# Altium schematic symbol library WR-MJ.SchLib: 82 symbols (part 1 of 2)
Pins are listed as number, name and electrical type; pins without a type are passive.

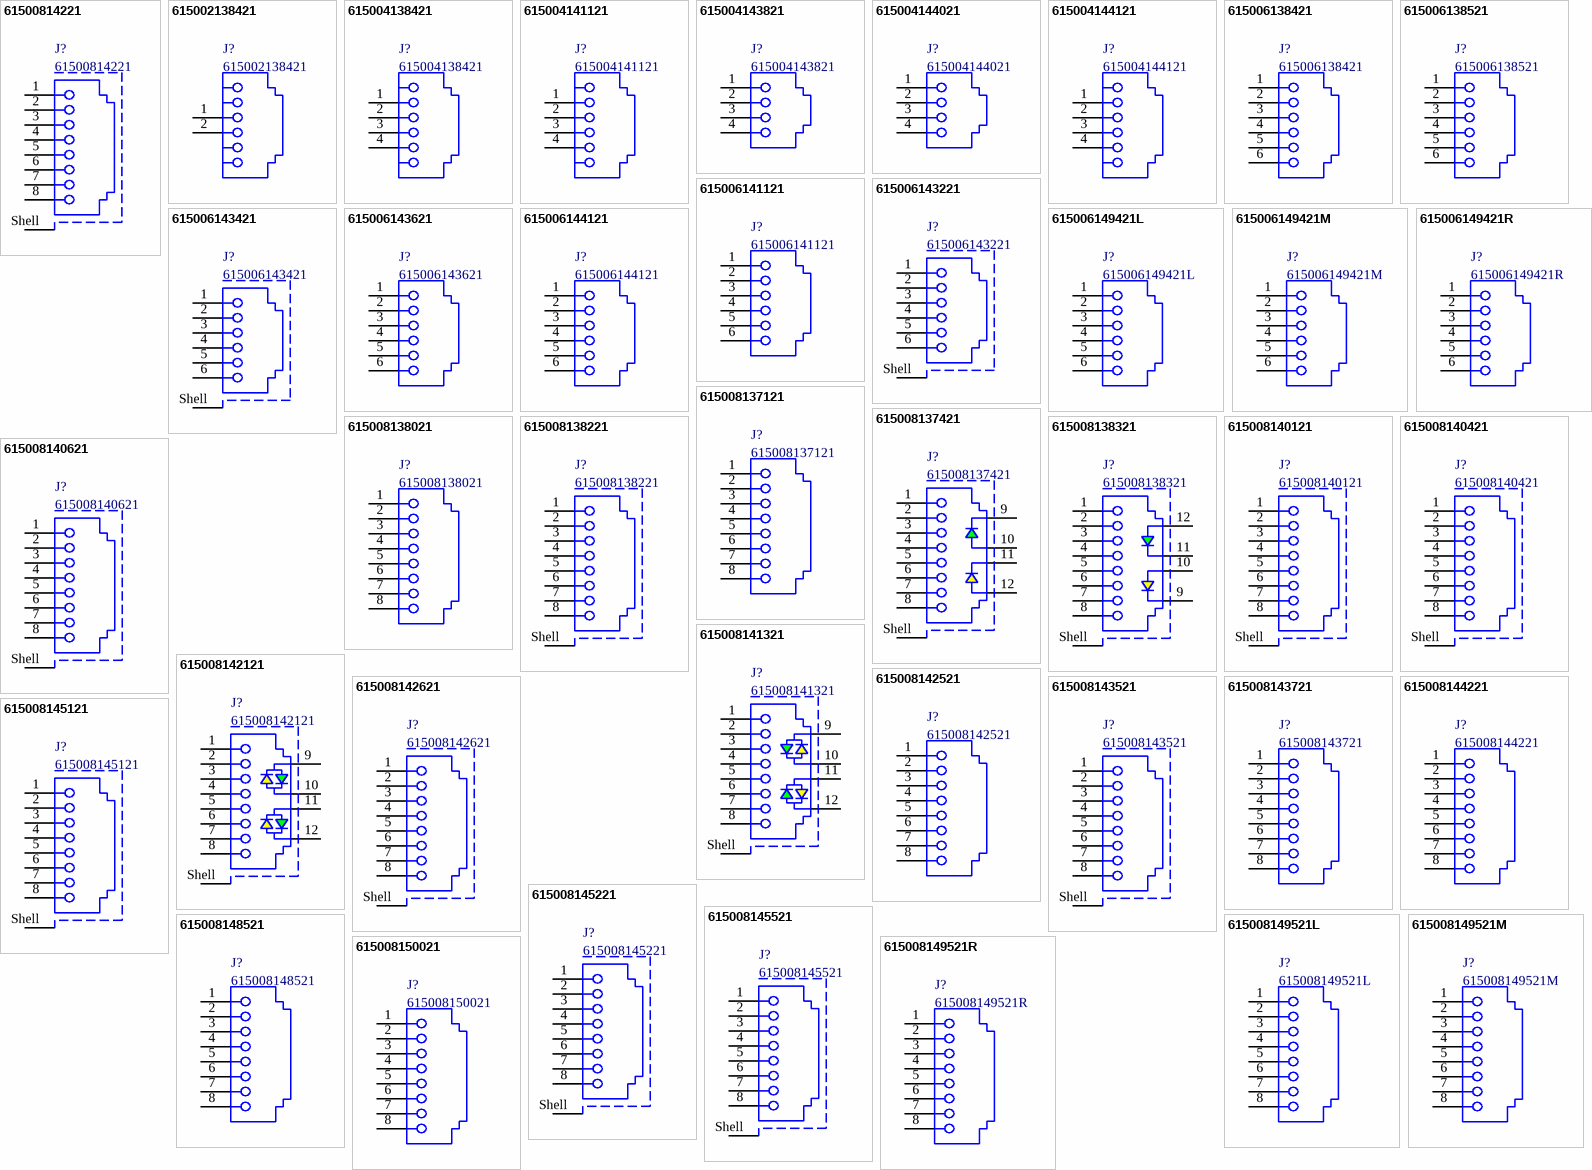
[diagram p0: symbols 61500814221 to 615008150021]

## 61500814221
designator J?
WR-MJ Modular Jack THT Horizontal Shielded 8P8C Tab Down; Manufacturer: Wurth Elektronik; Insulation Resistance: 500MΩ; Contact Resistance: 20mΩ; LED: No; Number of Ports: 1; Rated Current: 1.5A; Shielding: Yes; Working Voltage: 120V (AC); Withstanding Voltage: 1000V (AC); Manufacturer Part Number: 61500814221; Category: Input/Output Connector; Match Code: WR-MJ; ComponentLink1Description: Website Link; ComponentLink1URL: https://www.we-online.com/redexpert/article/61500814221?ad; ComponentLink2Description: Datasheet Link; ComponentLink2URL: https://www.we-online.com/redexpert/spec/61500814221?ad; Mount: Through Hole; Min Operating Temperature: -40°C; Max Operating Temperature: 85°C; Packaging: Tray; Number of Pins: 8P8C; Orientation: Horizontal
footprint 61500814221
pins: 1, 2, 3, 4, 5, 6, 7, 8, Shell

## 615002138421
designator J?
WR-MJ Modular Jack THT Horizontal Plastic 6P2C Tab Up; Manufacturer: Wurth Elektronik; Insulation Resistance: 500MΩ; Contact Resistance: 20mΩ; LED: No; Number of Ports: 1; Rated Current: 1.5A; Working Voltage: 120V (AC); Withstanding Voltage: 1000V (AC); Manufacturer Part Number: 615002138421; Category: Input/Output Connector; Match Code: WR-MJ; ComponentLink1Description: Website Link; ComponentLink1URL: https://www.we-online.com/redexpert/article/615002138421?ad; ComponentLink2Description: Datasheet Link; ComponentLink2URL: https://www.we-online.com/redexpert/spec/615002138421?ad; Mount: Through Hole; Min Operating Temperature: -40°C; Max Operating Temperature: 85°C; Packaging: Tray; Number of Pins: 6P2C; Orientation: Horizontal; Shielding: No
footprint 615002138421
pins: 1, 2

## 615004138421
designator J?
WR-MJ Modular Jack THT Horizontal Plastic 6P4C Tab Up; Manufacturer: Wurth Elektronik; Insulation Resistance: 500MΩ; Contact Resistance: 20mΩ; LED: No; Number of Ports: 1; Rated Current: 1.5A; Working Voltage: 120V (AC); Withstanding Voltage: 1000V (AC); Manufacturer Part Number: 615004138421; Category: Input/Output Connector; Match Code: WR-MJ; ComponentLink1Description: Website Link; ComponentLink1URL: https://www.we-online.com/redexpert/article/615004138421?ad; ComponentLink2Description: Datasheet Link; ComponentLink2URL: https://www.we-online.com/redexpert/spec/615004138421?ad; Mount: Through Hole; Min Operating Temperature: -40°C; Max Operating Temperature: 85°C; Packaging: Tray; Number of Pins: 6P4C; Orientation: Horizontal; Shielding: No
footprint 615004138421
pins: 1, 2, 3, 4

## 615004141121
designator J?
WR-MJ Modular Jack THT Horizontal Plastic 6P4C Tab Down; Manufacturer: Wurth Elektronik; Insulation Resistance: 500MΩ; Contact Resistance: 20mΩ; LED: No; Number of Ports: 1; Rated Current: 1.5A; Working Voltage: 120V (AC); Withstanding Voltage: 1000V (AC); Manufacturer Part Number: 615004141121; Category: Input/Output Connector; Match Code: WR-MJ; ComponentLink1Description: Website Link; ComponentLink1URL: https://www.we-online.com/redexpert/article/615004141121?ad; ComponentLink2Description: Datasheet Link; ComponentLink2URL: https://www.we-online.com/redexpert/spec/615004141121?ad; Mount: Through Hole; Min Operating Temperature: -40°C; Max Operating Temperature: 85°C; Packaging: Tray; Number of Pins: 6P4C; Orientation: Horizontal; Shielding: No
footprint 615004141121
pins: 1, 2, 3, 4

## 615004143821
designator J?
WR-MJ Modular Jack THT Horizontal Plastic 4P4C Tab Up; Manufacturer: Wurth Elektronik; Insulation Resistance: 500MΩ; Contact Resistance: 20mΩ; LED: No; Number of Ports: 1; Rated Current: 1.5A; Working Voltage: 120V (AC); Withstanding Voltage: 1000V (AC); Manufacturer Part Number: 615004143821; Category: Input/Output Connector; Match Code: WR-MJ; ComponentLink1Description: Website Link; ComponentLink1URL: https://www.we-online.com/redexpert/article/615004143821?ad; ComponentLink2Description: Datasheet Link; ComponentLink2URL: https://www.we-online.com/redexpert/spec/615004143821?ad; Mount: Through Hole; Min Operating Temperature: -40°C; Max Operating Temperature: 85°C; Packaging: Tray; Number of Pins: 4P4C; Orientation: Horizontal; Shielding: No
footprint 615004143821
pins: 1, 2, 3, 4

## 615004144021
designator J?
WR-MJ Modular Jack THT Vertical Plastic 4P4C with Ears; Manufacturer: Wurth Elektronik; Insulation Resistance: 500MΩ; Contact Resistance: 20mΩ; LED: No; Number of Ports: 1; Rated Current: 1.5A; Working Voltage: 120V (AC); Withstanding Voltage: 1000V (AC); Manufacturer Part Number: 615004144021; Category: Input/Output Connector; Match Code: WR-MJ; ComponentLink1Description: Website Link; ComponentLink1URL: https://www.we-online.com/redexpert/article/615004144021?ad; ComponentLink2Description: Datasheet Link; ComponentLink2URL: https://www.we-online.com/redexpert/spec/615004144021?ad; Mount: Through Hole; Min Operating Temperature: -40°C; Max Operating Temperature: 85°C; Packaging: Tray; Number of Pins: 4P4C; Orientation: Vertical; Shielding: No
footprint 615004144021
pins: 1, 2, 3, 4

## 615004144121
designator J?
WR-MJ Modular Jack THT Vertical Plastic 6P4C with Ears; Manufacturer: Wurth Elektronik; Insulation Resistance: 500MΩ; Contact Resistance: 20mΩ; LED: No; Number of Ports: 1; Rated Current: 1.5A; Working Voltage: 120V (AC); Withstanding Voltage: 1000V (AC); Manufacturer Part Number: 615004144121; Category: Input/Output Connector; Match Code: WR-MJ; ComponentLink1Description: Website Link; ComponentLink1URL: https://www.we-online.com/redexpert/article/615004144121?ad; ComponentLink2Description: Datasheet Link; ComponentLink2URL: https://www.we-online.com/redexpert/spec/615004144121?ad; Mount: Through Hole; Min Operating Temperature: -40°C; Max Operating Temperature: 85°C; Packaging: Tray; Number of Pins: 6P4C; Orientation: Vertical; Shielding: No
footprint 615004144121
pins: 1, 2, 3, 4

## 615006138421
designator J?
WR-MJ Modular Jack THT Horizontal Plastic 6P6C Tab Up; Manufacturer: Wurth Elektronik; Insulation Resistance: 500MΩ; Contact Resistance: 20mΩ; LED: No; Number of Ports: 1; Rated Current: 1.5A; Working Voltage: 120V (AC); Withstanding Voltage: 1000V (AC); Manufacturer Part Number: 615006138421; Category: Input/Output Connector; Match Code: WR-MJ; ComponentLink1Description: Website Link; ComponentLink1URL: https://www.we-online.com/redexpert/article/615006138421?ad; ComponentLink2Description: Datasheet Link; ComponentLink2URL: https://www.we-online.com/redexpert/spec/615006138421?ad; Mount: Through Hole; Min Operating Temperature: -40°C; Max Operating Temperature: 85°C; Packaging: Tray; Number of Pins: 6P6C; Orientation: Horizontal; Shielding: No
footprint 615006138421
pins: 1, 2, 3, 4, 5, 6

## 615006138521
designator J?
WR-MJ Modular Jack THT Vertical Plastic 6P6C with Ears; Manufacturer: Wurth Elektronik; Insulation Resistance: 500MΩ; Contact Resistance: 20mΩ; LED: No; Number of Ports: 1; Rated Current: 1.5A; Working Voltage: 120V (AC); Withstanding Voltage: 1000V (AC); Manufacturer Part Number: 615006138521; Category: Input/Output Connector; Match Code: WR-MJ; ComponentLink1Description: Website Link; ComponentLink1URL: https://www.we-online.com/redexpert/article/615006138521?ad; ComponentLink2Description: Datasheet Link; ComponentLink2URL: https://www.we-online.com/redexpert/spec/615006138521?ad; Mount: Through Hole; Min Operating Temperature: -40°C; Max Operating Temperature: 85°C; Packaging: Tray; Number of Pins: 6P6C; Orientation: Vertical; Shielding: No
footprint 615006138521
pins: 1, 2, 3, 4, 5, 6

## 615006141121
designator J?
WR-MJ Modular Jack THT Horizontal Plastic 6P6C Tab Down; Manufacturer: Wurth Elektronik; Insulation Resistance: 500MΩ; Contact Resistance: 20mΩ; LED: No; Number of Ports: 1; Rated Current: 1.5A; Working Voltage: 120V (AC); Withstanding Voltage: 1000V (AC); Manufacturer Part Number: 615006141121; Category: Input/Output Connector; Match Code: WR-MJ; ComponentLink1Description: Website Link; ComponentLink1URL: https://www.we-online.com/redexpert/article/615006141121?ad; ComponentLink2Description: Datasheet Link; ComponentLink2URL: https://www.we-online.com/redexpert/spec/615006141121?ad; Mount: Through Hole; Min Operating Temperature: -40°C; Max Operating Temperature: 85°C; Packaging: Tray; Number of Pins: 6P6C; Orientation: Horizontal; Shielding: No
footprint 615006141121
pins: 1, 2, 3, 4, 5, 6

## 615006143221
designator J?
WR-MJ Modular Jack THT Horizontal Shielded 6P6C Tab Up; Manufacturer: Wurth Elektronik; Insulation Resistance: 500MΩ; Contact Resistance: 20mΩ; LED: No; Number of Ports: 1; Rated Current: 1.5A; Shielding: Yes; Working Voltage: 120V (AC); Withstanding Voltage: 1000V (AC); Manufacturer Part Number: 615006143221; Category: Input/Output Connector; Match Code: WR-MJ; ComponentLink1Description: Website Link; ComponentLink1URL: https://www.we-online.com/redexpert/article/615006143221?ad; ComponentLink2Description: Datasheet Link; ComponentLink2URL: https://www.we-online.com/redexpert/spec/615006143221?ad; Mount: Through Hole; Min Operating Temperature: -40°C; Max Operating Temperature: 85°C; Packaging: Tray; Number of Pins: 6P6C; Orientation: Horizontal
footprint 615006143221
pins: 1, 2, 3, 4, 5, 6, Shell

## 615006143421
designator J?
WR-MJ Modular Jack THT Horizontal Half Shielded 6P6C Tab Down; Manufacturer: Wurth Elektronik; Insulation Resistance: 500MΩ; Contact Resistance: 20mΩ; LED: No; Number of Ports: 1; Rated Current: 1.5A; Shielding: Yes; Working Voltage: 120V (AC); Withstanding Voltage: 1000V (AC); Manufacturer Part Number: 615006143421; Category: Input/Output Connector; Match Code: WR-MJ; ComponentLink1Description: Website Link; ComponentLink1URL: https://www.we-online.com/redexpert/article/615006143421?ad; ComponentLink2Description: Datasheet Link; ComponentLink2URL: https://www.we-online.com/redexpert/spec/615006143421?ad; Mount: Through Hole; Min Operating Temperature: -40°C; Max Operating Temperature: 85°C; Packaging: Tray; Number of Pins: 6P6C; Orientation: Horizontal
footprint 615006143421
pins: 1, 2, 3, 4, 5, 6, Shell

## 615006143621
designator J?
WR-MJ Modular Jack THT Horizontal Plastic 6P6C Tab Down; Manufacturer: Wurth Elektronik; Insulation Resistance: 500MΩ; Contact Resistance: 20mΩ; LED: No; Number of Ports: 1; Rated Current: 1.5A; Working Voltage: 120V (AC); Withstanding Voltage: 1000V (AC); Manufacturer Part Number: 615006143621; Category: Input/Output Connector; Match Code: WR-MJ; ComponentLink1Description: Website Link; ComponentLink1URL: https://www.we-online.com/redexpert/article/615006143621?ad; ComponentLink2Description: Datasheet Link; ComponentLink2URL: https://www.we-online.com/redexpert/spec/615006143621?ad; Mount: Through Hole; Min Operating Temperature: -40°C; Max Operating Temperature: 85°C; Packaging: Tray; Number of Pins: 6P6C; Orientation: Horizontal; Shielding: No
footprint 615006143621
pins: 1, 2, 3, 4, 5, 6

## 615006144121
designator J?
WR-MJ Modular Jack THT Vertical Plastic 6P6C with Ears; Manufacturer: Wurth Elektronik; Insulation Resistance: 500MΩ; Contact Resistance: 20mΩ; LED: No; Number of Ports: 1; Rated Current: 1.5A; Working Voltage: 120V (AC); Withstanding Voltage: 1000V (AC); Manufacturer Part Number: 615006144121; Category: Input/Output Connector; Match Code: WR-MJ; ComponentLink1Description: Website Link; ComponentLink1URL: https://www.we-online.com/redexpert/article/615006144121?ad; ComponentLink2Description: Datasheet Link; ComponentLink2URL: https://www.we-online.com/redexpert/spec/615006144121?ad; Mount: Through Hole; Min Operating Temperature: -40°C; Max Operating Temperature: 85°C; Packaging: Tray; Number of Pins: 6P6C; Orientation: Vertical; Shielding: No
footprint 615006144121
pins: 1, 2, 3, 4, 5, 6

## 615006149421L
designator J?
WR-MJ Modular Jack THT Horizontal Plastic 6P6C Assembly Tab Up; Manufacturer: Wurth Elektronik; Insulation Resistance: 500MΩ; Contact Resistance: 20mΩ; LED: No; Number of Ports: 1; Rated Current: 1.5A; Working Voltage: 120V (AC); Withstanding Voltage: 1000V (AC); Manufacturer Part Number: 615006149421L; Category: Input/Output Connector; Match Code: WR-MJ; ComponentLink1Description: Website Link; ComponentLink1URL: https://www.we-online.com/redexpert/article/615006149421L?ad; ComponentLink2Description: Datasheet Link; ComponentLink2URL: https://www.we-online.com/redexpert/spec/615006149421L?ad; Mount: Through Hole; Min Operating Temperature: -40°C; Max Operating Temperature: 85°C; Packaging: Tray; Number of Pins: 6P6C; Orientation: Horizontal; Shielding: No
footprint 615006149421L
pins: 1, 2, 3, 4, 5, 6

## 615006149421M
designator J?
WR-MJ Modular Jack THT Horizontal Plastic 6P6C Assembly Tab Up; Manufacturer: Wurth Elektronik; Insulation Resistance: 500MΩ; Contact Resistance: 20mΩ; LED: No; Number of Ports: 1; Rated Current: 1.5A; Working Voltage: 120V (AC); Withstanding Voltage: 1000V (AC); Manufacturer Part Number: 615006149421M; Category: Input/Output Connector; Match Code: WR-MJ; ComponentLink1Description: Website Link; ComponentLink1URL: https://www.we-online.com/redexpert/article/615006149421M?ad; ComponentLink2Description: Datasheet Link; ComponentLink2URL: https://www.we-online.com/redexpert/spec/615006149421M?ad; Mount: Through Hole; Min Operating Temperature: -40°C; Max Operating Temperature: 85°C; Packaging: Tray; Number of Pins: 6P6C; Orientation: Horizontal; Shielding: No
footprint 615006149421M
pins: 1, 2, 3, 4, 5, 6

## 615006149421R
designator J?
WR-MJ Modular Jack THT Horizontal Plastic 6P6C Assembly Tab Up; Manufacturer: Wurth Elektronik; Insulation Resistance: 500MΩ; Contact Resistance: 20mΩ; LED: No; Number of Ports: 1; Rated Current: 1.5A; Working Voltage: 120V (AC); Withstanding Voltage: 1000V (AC); Manufacturer Part Number: 615006149421R; Category: Input/Output Connector; Match Code: WR-MJ; ComponentLink1Description: Website Link; ComponentLink1URL: https://www.we-online.com/redexpert/article/615006149421R?ad; ComponentLink2Description: Datasheet Link; ComponentLink2URL: https://www.we-online.com/redexpert/spec/615006149421R?ad; Mount: Through Hole; Min Operating Temperature: -40°C; Max Operating Temperature: 85°C; Packaging: Tray; Number of Pins: 6P6C; Orientation: Horizontal; Shielding: No
footprint 615006149421R
pins: 1, 2, 3, 4, 5, 6

## 615008137121
designator J?
WR-MJ Modular Jack THT Horizontal Plastic 8P8C Tab Down; Manufacturer: Wurth Elektronik; Insulation Resistance: 500MΩ; Contact Resistance: 20mΩ; LED: No; Number of Ports: 1; Rated Current: 1.5A; Working Voltage: 120V (AC); Withstanding Voltage: 1000V (AC); Manufacturer Part Number: 615008137121; Category: Input/Output Connector; Match Code: WR-MJ; ComponentLink1Description: Website Link; ComponentLink1URL: https://www.we-online.com/redexpert/article/615008137121?ad; ComponentLink2Description: Datasheet Link; ComponentLink2URL: https://www.we-online.com/redexpert/spec/615008137121?ad; Mount: Through Hole; Min Operating Temperature: -40°C; Max Operating Temperature: 85°C; Packaging: Tray; Number of Pins: 8P8C; Orientation: Horizontal; Shielding: No
footprint 615008137121
pins: 1, 2, 3, 4, 5, 6, 7, 8

## 615008137421
designator J?
WR-MJ Modular Jack THT Horizontal Shielded 8P8C Tab Up; Manufacturer: Wurth Elektronik; Insulation Resistance: 500MΩ; Contact Resistance: 20mΩ; LED: Y/G; Number of Ports: 1; Rated Current: 1.5A; Shielding: Yes; Working Voltage: 120V (AC); Withstanding Voltage: 1000V (AC); Manufacturer Part Number: 615008137421; Category: Input/Output Connector; Match Code: WR-MJ; ComponentLink1Description: Website Link; ComponentLink1URL: https://www.we-online.com/redexpert/article/615008137421?ad; ComponentLink2Description: Datasheet Link; ComponentLink2URL: https://www.we-online.com/redexpert/spec/615008137421?ad; Mount: Through Hole; Min Operating Temperature: -40°C; Max Operating Temperature: 85°C; Packaging: Tray; Number of Pins: 8P8C; Orientation: Horizontal
footprint 615008137421
pins: 1, 2, 3, 4, 5, 6, 7, 8, 9, 10, 11, 12, Shell

## 615008138021
designator J?
WR-MJ Modular Jack THT Vertical Plastic 8P8C; Manufacturer: Wurth Elektronik; Insulation Resistance: 500MΩ; Contact Resistance: 20mΩ; LED: No; Number of Ports: 1; Rated Current: 1.5A; Working Voltage: 120V (AC); Withstanding Voltage: 1000V (AC); Manufacturer Part Number: 615008138021; Category: Input/Output Connector; Match Code: WR-MJ; ComponentLink1Description: Website Link; ComponentLink1URL: https://www.we-online.com/redexpert/article/615008138021?ad; ComponentLink2Description: Datasheet Link; ComponentLink2URL: https://www.we-online.com/redexpert/spec/615008138021?ad; Mount: Through Hole; Min Operating Temperature: -40°C; Max Operating Temperature: 85°C; Packaging: Tray; Number of Pins: 8P8C; Orientation: Vertical; Shielding: No
footprint 615008138021
pins: 1, 2, 3, 4, 5, 6, 7, 8

## 615008138221
designator J?
WR-MJ Modular Jack THT Vertical Shielded 8P8C Front Post; Manufacturer: Wurth Elektronik; Insulation Resistance: 500MΩ; Contact Resistance: 20mΩ; LED: No; Number of Ports: 1; Rated Current: 1.5A; Shielding: Yes; Working Voltage: 120V (AC); Withstanding Voltage: 1000V (AC); Manufacturer Part Number: 615008138221; Category: Input/Output Connector; Match Code: WR-MJ; ComponentLink1Description: Website Link; ComponentLink1URL: https://www.we-online.com/redexpert/article/615008138221?ad; ComponentLink2Description: Datasheet Link; ComponentLink2URL: https://www.we-online.com/redexpert/spec/615008138221?ad; Mount: Through Hole; Min Operating Temperature: -40°C; Max Operating Temperature: 85°C; Packaging: Tray; Number of Pins: 8P8C; Orientation: Vertical
footprint 615008138221
pins: 1, 2, 3, 4, 5, 6, 7, 8, Shell

## 615008138321
designator J?
WR-MJ Modular Jack THT Vertical Shielded 8P8C with LED; Manufacturer: Wurth Elektronik; Insulation Resistance: 500MΩ; Contact Resistance: 20mΩ; LED: Y/G; Number of Ports: 1; Rated Current: 1.5A; Shielding: Yes; Working Voltage: 120V (AC); Withstanding Voltage: 1000V (AC); Manufacturer Part Number: 615008138321; Category: Input/Output Connector; Match Code: WR-MJ; ComponentLink1Description: Website Link; ComponentLink1URL: https://www.we-online.com/redexpert/article/615008138321?ad; ComponentLink2Description: Datasheet Link; ComponentLink2URL: https://www.we-online.com/redexpert/spec/615008138321?ad; Mount: Through Hole; Min Operating Temperature: -40°C; Max Operating Temperature: 85°C; Packaging: Tray; Number of Pins: 8P8C; Orientation: Vertical
footprint 615008138321
pins: 1, 2, 3, 4, 5, 6, 7, 8, 9, 10, 11, 12, Shell

## 615008140121
designator J?
WR-MJ Modular Jack THT Horizontal Shielded Front Grounding Post 8P8C Tab Down; Manufacturer: Wurth Elektronik; Insulation Resistance: 500MΩ; Contact Resistance: 20mΩ; LED: No; Number of Ports: 1; Rated Current: 1.5A; Shielding: Yes; Working Voltage: 120V (AC); Withstanding Voltage: 1000V (AC); Manufacturer Part Number: 615008140121; Category: Input/Output Connector; Match Code: WR-MJ; ComponentLink1Description: Website Link; ComponentLink1URL: https://www.we-online.com/redexpert/article/615008140121?ad; ComponentLink2Description: Datasheet Link; ComponentLink2URL: https://www.we-online.com/redexpert/spec/615008140121?ad; Mount: Through Hole; Min Operating Temperature: -40°C; Max Operating Temperature: 85°C; Packaging: Tray; Number of Pins: 8P8C; Orientation: Horizontal
footprint 615008140121
pins: 1, 2, 3, 4, 5, 6, 7, 8, Shell

## 615008140421
designator J?
WR-MJ Modular Jack THT Vertical Shielded 8P8C Rear Post; Manufacturer: Wurth Elektronik; Insulation Resistance: 500MΩ; Contact Resistance: 20mΩ; LED: No; Number of Ports: 1; Rated Current: 1.5A; Shielding: Yes; Working Voltage: 120V (AC); Withstanding Voltage: 1000V (AC); Manufacturer Part Number: 615008140421; Category: Input/Output Connector; Match Code: WR-MJ; ComponentLink1Description: Website Link; ComponentLink1URL: https://www.we-online.com/redexpert/article/615008140421?ad; ComponentLink2Description: Datasheet Link; ComponentLink2URL: https://www.we-online.com/redexpert/spec/615008140421?ad; Mount: Through Hole; Min Operating Temperature: -40°C; Max Operating Temperature: 85°C; Packaging: Tray; Number of Pins: 8P8C; Orientation: Vertical
footprint 615008140421
pins: 1, 2, 3, 4, 5, 6, 7, 8, Shell

## 615008140621
designator J?
WR-MJ Modular Jack THT Horizontal Shielded with EMI Panel Finger 8P8C Tab Up; Manufacturer: Wurth Elektronik; Insulation Resistance: 500MΩ; Contact Resistance: 20mΩ; LED: No; Number of Ports: 1; Rated Current: 1.5A; Shielding: Yes; Working Voltage: 120V (AC); Withstanding Voltage: 1000V (AC); Manufacturer Part Number: 615008140621; Category: Input/Output Connector; Match Code: WR-MJ; ComponentLink1Description: Website Link; ComponentLink1URL: https://www.we-online.com/redexpert/article/615008140621?ad; ComponentLink2Description: Datasheet Link; ComponentLink2URL: https://www.we-online.com/redexpert/spec/615008140621?ad; Mount: Through Hole; Min Operating Temperature: -40°C; Max Operating Temperature: 85°C; Packaging: Tray; Number of Pins: 8P8C; Orientation: Horizontal
footprint 615008140621
pins: 1, 2, 3, 4, 5, 6, 7, 8, Shell

## 615008141321
designator J?
WR-MJ Modular Jack THT Horizontal Shielded 8P8C Tab Up; Manufacturer: Wurth Elektronik; Insulation Resistance: 500MΩ; Contact Resistance: 20mΩ; LED: Bipolar Y/G; Number of Ports: 1; Rated Current: 1.5A; Shielding: Yes; Working Voltage: 120V (AC); Withstanding Voltage: 1000V (AC); Manufacturer Part Number: 615008141321; Category: Input/Output Connector; Match Code: WR-MJ; ComponentLink1Description: Website Link; ComponentLink1URL: https://www.we-online.com/redexpert/article/615008141321?ad; ComponentLink2Description: Datasheet Link; ComponentLink2URL: https://www.we-online.com/redexpert/spec/615008141321?ad; Mount: Through Hole; Min Operating Temperature: -40°C; Max Operating Temperature: 85°C; Packaging: Tray; Number of Pins: 8P8C; Orientation: Horizontal
footprint 615008141321
pins: 1, 2, 3, 4, 5, 6, 7, 8, 9, 10, 11, 12, Shell

## 615008142121
designator J?
WR-MJ Modular Jack THT Horizontal Shielded 8P8C Tab Up; Manufacturer: Wurth Elektronik; Insulation Resistance: 500MΩ; Contact Resistance: 20mΩ; LED: Bipolar Y/G; Number of Ports: 1; Rated Current: 1.5A; Shielding: Yes; Working Voltage: 120V (AC); Withstanding Voltage: 1000V (AC); Manufacturer Part Number: 615008142121; Category: Input/Output Connector; Match Code: WR-MJ; ComponentLink1Description: Website Link; ComponentLink1URL: https://www.we-online.com/redexpert/article/615008142121?ad; ComponentLink2Description: Datasheet Link; ComponentLink2URL: https://www.we-online.com/redexpert/spec/615008142121?ad; Mount: Through Hole; Min Operating Temperature: -40°C; Max Operating Temperature: 85°C; Packaging: Tray; Number of Pins: 8P8C; Orientation: Horizontal
footprint 615008142121
pins: 1, 2, 3, 4, 5, 6, 7, 8, 9, 10, 11, 12, Shell

## 615008142521
designator J?
WR-MJ Modular Jack THT 45° Plastic 8P8C; Manufacturer: Wurth Elektronik; Insulation Resistance: 500MΩ; Contact Resistance: 20mΩ; LED: No; Number of Ports: 1; Rated Current: 1.5A; Working Voltage: 120V (AC); Withstanding Voltage: 1000V (AC); Manufacturer Part Number: 615008142521; Category: Input/Output Connector; Match Code: WR-MJ; ComponentLink1Description: Website Link; ComponentLink1URL: https://www.we-online.com/redexpert/article/615008142521?ad; ComponentLink2Description: Datasheet Link; ComponentLink2URL: https://www.we-online.com/redexpert/spec/615008142521?ad; Mount: Through Hole; Min Operating Temperature: -40°C; Max Operating Temperature: 85°C; Packaging: Tray; Number of Pins: 8P8C; Orientation: 45°; Shielding: No
footprint 615008142521
pins: 1, 2, 3, 4, 5, 6, 7, 8

## 615008142621
designator J?
WR-MJ Modular Jack THT Horizontal Shielded Rear Grounding Post 8P8C Tab Down; Manufacturer: Wurth Elektronik; Insulation Resistance: 500MΩ; Contact Resistance: 20mΩ; LED: No; Number of Ports: 1; Rated Current: 1.5A; Shielding: Yes; Working Voltage: 120V (AC); Withstanding Voltage: 1000V (AC); Manufacturer Part Number: 615008142621; Category: Input/Output Connector; Match Code: WR-MJ; ComponentLink1Description: Website Link; ComponentLink1URL: https://www.we-online.com/redexpert/article/615008142621?ad; ComponentLink2Description: Datasheet Link; ComponentLink2URL: https://www.we-online.com/redexpert/spec/615008142621?ad; Mount: Through Hole; Min Operating Temperature: -40°C; Max Operating Temperature: 85°C; Packaging: Tray; Number of Pins: 8P8C; Orientation: Horizontal
footprint 615008142621
pins: 1, 2, 3, 4, 5, 6, 7, 8, Shell

## 615008143521
designator J?
WR-MJ Modular Jack THT Horizontal Half Shielded 8P8C Tab Down; Manufacturer: Wurth Elektronik; Insulation Resistance: 500MΩ; Contact Resistance: 20mΩ; LED: No; Number of Ports: 1; Rated Current: 1.5A; Shielding: Yes; Working Voltage: 120V (AC); Withstanding Voltage: 1000V (AC); Manufacturer Part Number: 615008143521; Category: Input/Output Connector; Match Code: WR-MJ; ComponentLink1Description: Website Link; ComponentLink1URL: https://www.we-online.com/redexpert/article/615008143521?ad; ComponentLink2Description: Datasheet Link; ComponentLink2URL: https://www.we-online.com/redexpert/spec/615008143521?ad; Mount: Through Hole; Min Operating Temperature: -40°C; Max Operating Temperature: 85°C; Packaging: Tray; Number of Pins: 8P8C; Orientation: Horizontal
footprint 615008143521
pins: 1, 2, 3, 4, 5, 6, 7, 8, Shell

## 615008143721
designator J?
WR-MJ Modular Jack THT Horizontal Plastic 8P8C Tab Down; Manufacturer: Wurth Elektronik; Insulation Resistance: 500MΩ; Contact Resistance: 20mΩ; LED: No; Number of Ports: 1; Rated Current: 1.5A; Working Voltage: 120V (AC); Withstanding Voltage: 1000V (AC); Manufacturer Part Number: 615008143721; Category: Input/Output Connector; Match Code: WR-MJ; ComponentLink1Description: Website Link; ComponentLink1URL: https://www.we-online.com/redexpert/article/615008143721?ad; ComponentLink2Description: Datasheet Link; ComponentLink2URL: https://www.we-online.com/redexpert/spec/615008143721?ad; Mount: Through Hole; Min Operating Temperature: -40°C; Max Operating Temperature: 85°C; Packaging: Tray; Number of Pins: 8P8C; Orientation: Horizontal; Shielding: No
footprint 615008143721
pins: 1, 2, 3, 4, 5, 6, 7, 8

## 615008144221
designator J?
WR-MJ Modular Jack THT Vertical Plastic 8P8C with Ears; Manufacturer: Wurth Elektronik; Insulation Resistance: 500MΩ; Contact Resistance: 20mΩ; LED: No; Number of Ports: 1; Rated Current: 1.5A; Working Voltage: 120V (AC); Withstanding Voltage: 1000V (AC); Manufacturer Part Number: 615008144221; Category: Input/Output Connector; Match Code: WR-MJ; ComponentLink1Description: Website Link; ComponentLink1URL: https://www.we-online.com/redexpert/article/615008144221?ad; ComponentLink2Description: Datasheet Link; ComponentLink2URL: https://www.we-online.com/redexpert/spec/615008144221?ad; Mount: Through Hole; Min Operating Temperature: -40°C; Max Operating Temperature: 85°C; Packaging: Tray; Number of Pins: 8P8C; Orientation: Vertical; Shielding: No
footprint 615008144221
pins: 1, 2, 3, 4, 5, 6, 7, 8

## 615008145121
designator J?
WR-MJ Modular Jack THT 45° Entry Shielded 8P8C Standard & Reverse Metal Post Trail; Manufacturer: Wurth Elektronik; Insulation Resistance: 500MΩ; Contact Resistance: 20mΩ; LED: No; Number of Ports: 1; Rated Current: 1.5A; Shielding: Yes; Working Voltage: 120V (AC); Withstanding Voltage: 1000V (AC); Manufacturer Part Number: 615008145121; Category: Input/Output Connector; Match Code: WR-MJ; ComponentLink1Description: Website Link; ComponentLink1URL: https://www.we-online.com/redexpert/article/615008145121?ad; ComponentLink2Description: Datasheet Link; ComponentLink2URL: https://www.we-online.com/redexpert/spec/615008145121?ad; Mount: Through Hole; Min Operating Temperature: -40°C; Max Operating Temperature: 85°C; Packaging: Tray; Number of Pins: 8P8C; Orientation: 45°
footprint 615008145121
pins: 1, 2, 3, 4, 5, 6, 7, 8, Shell

## 615008145221
designator J?
WR-MJ Modular Jack THT 45° Entry Shielded 8P8C Standard & Reverse Metal Post Trail; Manufacturer: Wurth Elektronik; Insulation Resistance: 500MΩ; Contact Resistance: 20mΩ; LED: No; Number of Ports: 1; Rated Current: 1.5A; Shielding: Yes; Working Voltage: 120V (AC); Withstanding Voltage: 1000V (AC); Manufacturer Part Number: 615008145221; Category: Input/Output Connector; Match Code: WR-MJ; ComponentLink1Description: Website Link; ComponentLink1URL: https://www.we-online.com/redexpert/article/615008145221?ad; ComponentLink2Description: Datasheet Link; ComponentLink2URL: https://www.we-online.com/redexpert/spec/615008145221?ad; Mount: Through Hole; Min Operating Temperature: -40°C; Max Operating Temperature: 85°C; Packaging: Tray; Number of Pins: 8P8C; Orientation: 45°
footprint 615008145221
pins: 1, 2, 3, 4, 5, 6, 7, 8, Shell

## 615008145521
designator J?
WR-MJ Modular Jack THT Horizontal Shielded with EMI Panel Finger 8P8C CAT 5e Tab Down; Manufacturer: Wurth Elektronik; Insulation Resistance: 500MΩ; Contact Resistance: 20mΩ; LED: No; Number of Ports: 1; Rated Current: 1.5A; Shielding: Yes; Working Voltage: 125V (AC); Withstanding Voltage: 1000V (AC); Manufacturer Part Number: 615008145521; Category: Input/Output Connector; Match Code: WR-MJ; ComponentLink1Description: Website Link; ComponentLink1URL: https://www.we-online.com/redexpert/article/615008145521?ad; ComponentLink2Description: Datasheet Link; ComponentLink2URL: https://www.we-online.com/redexpert/spec/615008145521?ad; Mount: Through Hole; Min Operating Temperature: -40°C; Max Operating Temperature: 85°C; Packaging: Tray; Number of Pins: 8P8C; Orientation: Horizontal
footprint 615008145521
pins: 1, 2, 3, 4, 5, 6, 7, 8, Shell

## 615008148521
designator J?
WR-MJ Modular Jack THT Horizontal Plastic 8P8C Tab Up; Manufacturer: Wurth Elektronik; Insulation Resistance: 500MΩ; Contact Resistance: 20mΩ; LED: No; Number of Ports: 1; Rated Current: 1.5A; Working Voltage: 120V (AC); Withstanding Voltage: 1000V (AC); Manufacturer Part Number: 615008148521; Category: Input/Output Connector; Match Code: WR-MJ; ComponentLink1Description: Website Link; ComponentLink1URL: https://www.we-online.com/redexpert/article/615008148521?ad; ComponentLink2Description: Datasheet Link; ComponentLink2URL: https://www.we-online.com/redexpert/spec/615008148521?ad; Mount: Through Hole; Min Operating Temperature: -40°C; Max Operating Temperature: 85°C; Packaging: Tray; Number of Pins: 8P8C; Orientation: Horizontal; Shielding: No
footprint 615008148521
pins: 1, 2, 3, 4, 5, 6, 7, 8

## 615008149521L
designator J?
WR-MJ Modular Jack THT Horizontal Plastic 8P8C Assembly Tab Up; Manufacturer: Wurth Elektronik; Insulation Resistance: 500MΩ; Contact Resistance: 20mΩ; LED: No; Number of Ports: 1; Rated Current: 1.5A; Working Voltage: 120V (AC); Withstanding Voltage: 1000V (AC); Manufacturer Part Number: 615008149521L; Category: Input/Output Connector; Match Code: WR-MJ; ComponentLink1Description: Website Link; ComponentLink1URL: https://www.we-online.com/redexpert/article/615008149521L?ad; ComponentLink2Description: Datasheet Link; ComponentLink2URL: https://www.we-online.com/redexpert/spec/615008149521L?ad; Mount: Through Hole; Min Operating Temperature: -40°C; Max Operating Temperature: 85°C; Packaging: Tray; Number of Pins: 8P8C; Orientation: Horizontal; Shielding: No
footprint 615008149521L
pins: 1, 2, 3, 4, 5, 6, 7, 8

## 615008149521M
designator J?
WR-MJ Modular Jack THT Horizontal Plastic 8P8C Assembly Tab Up; Manufacturer: Wurth Elektronik; Insulation Resistance: 500MΩ; Contact Resistance: 20mΩ; LED: No; Number of Ports: 1; Rated Current: 1.5A; Working Voltage: 120V (AC); Withstanding Voltage: 1000V (AC); Manufacturer Part Number: 615008149521M; Category: Input/Output Connector; Match Code: WR-MJ; ComponentLink1Description: Website Link; ComponentLink1URL: https://www.we-online.com/redexpert/article/615008149521M?ad; ComponentLink2Description: Datasheet Link; ComponentLink2URL: https://www.we-online.com/redexpert/spec/615008149521M?ad; Mount: Through Hole; Min Operating Temperature: -40°C; Max Operating Temperature: 85°C; Packaging: Tray; Number of Pins: 8P8C; Orientation: Horizontal; Shielding: No
footprint 615008149521M
pins: 1, 2, 3, 4, 5, 6, 7, 8

## 615008149521R
designator J?
WR-MJ Modular Jack THT Horizontal Plastic 8P8C Assembly Tab Up; Manufacturer: Wurth Elektronik; Insulation Resistance: 500MΩ; Contact Resistance: 20mΩ; LED: No; Number of Ports: 1; Rated Current: 1.5A; Working Voltage: 120V (AC); Withstanding Voltage: 1000V (AC); Manufacturer Part Number: 615008149521R; Category: Input/Output Connector; Match Code: WR-MJ; ComponentLink1Description: Website Link; ComponentLink1URL: https://www.we-online.com/redexpert/article/615008149521R?ad; ComponentLink2Description: Datasheet Link; ComponentLink2URL: https://www.we-online.com/redexpert/spec/615008149521R?ad; Mount: Through Hole; Min Operating Temperature: -40°C; Max Operating Temperature: 85°C; Packaging: Tray; Number of Pins: 8P8C; Orientation: Horizontal; Shielding: No
footprint 615008149521R
pins: 1, 2, 3, 4, 5, 6, 7, 8

## 615008150021
designator J?
WR-MJ Modular Jack THT Horizontal Mid-Mount Plastic 8P8C Tab Up; Manufacturer: Wurth Elektronik; Insulation Resistance: 1000MΩ; Contact Resistance: 20mΩ; LED: No; Number of Ports: 1; Rated Current: 1.5A; Working Voltage: 125V (AC); Withstanding Voltage: 1000V (AC); Manufacturer Part Number: 615008150021; Category: Input/Output Connector; Match Code: WR-MJ; ComponentLink1Description: Website Link; ComponentLink1URL: https://www.we-online.com/redexpert/article/615008150021?ad; ComponentLink2Description: Datasheet Link; ComponentLink2URL: https://www.we-online.com/redexpert/spec/615008150021?ad; Mount: Through Hole; Min Operating Temperature: -40°C; Max Operating Temperature: 85°C; Packaging: Tray; Number of Pins: 8P8C; Orientation: Horizontal; Shielding: No
footprint 615008150021
pins: 1, 2, 3, 4, 5, 6, 7, 8

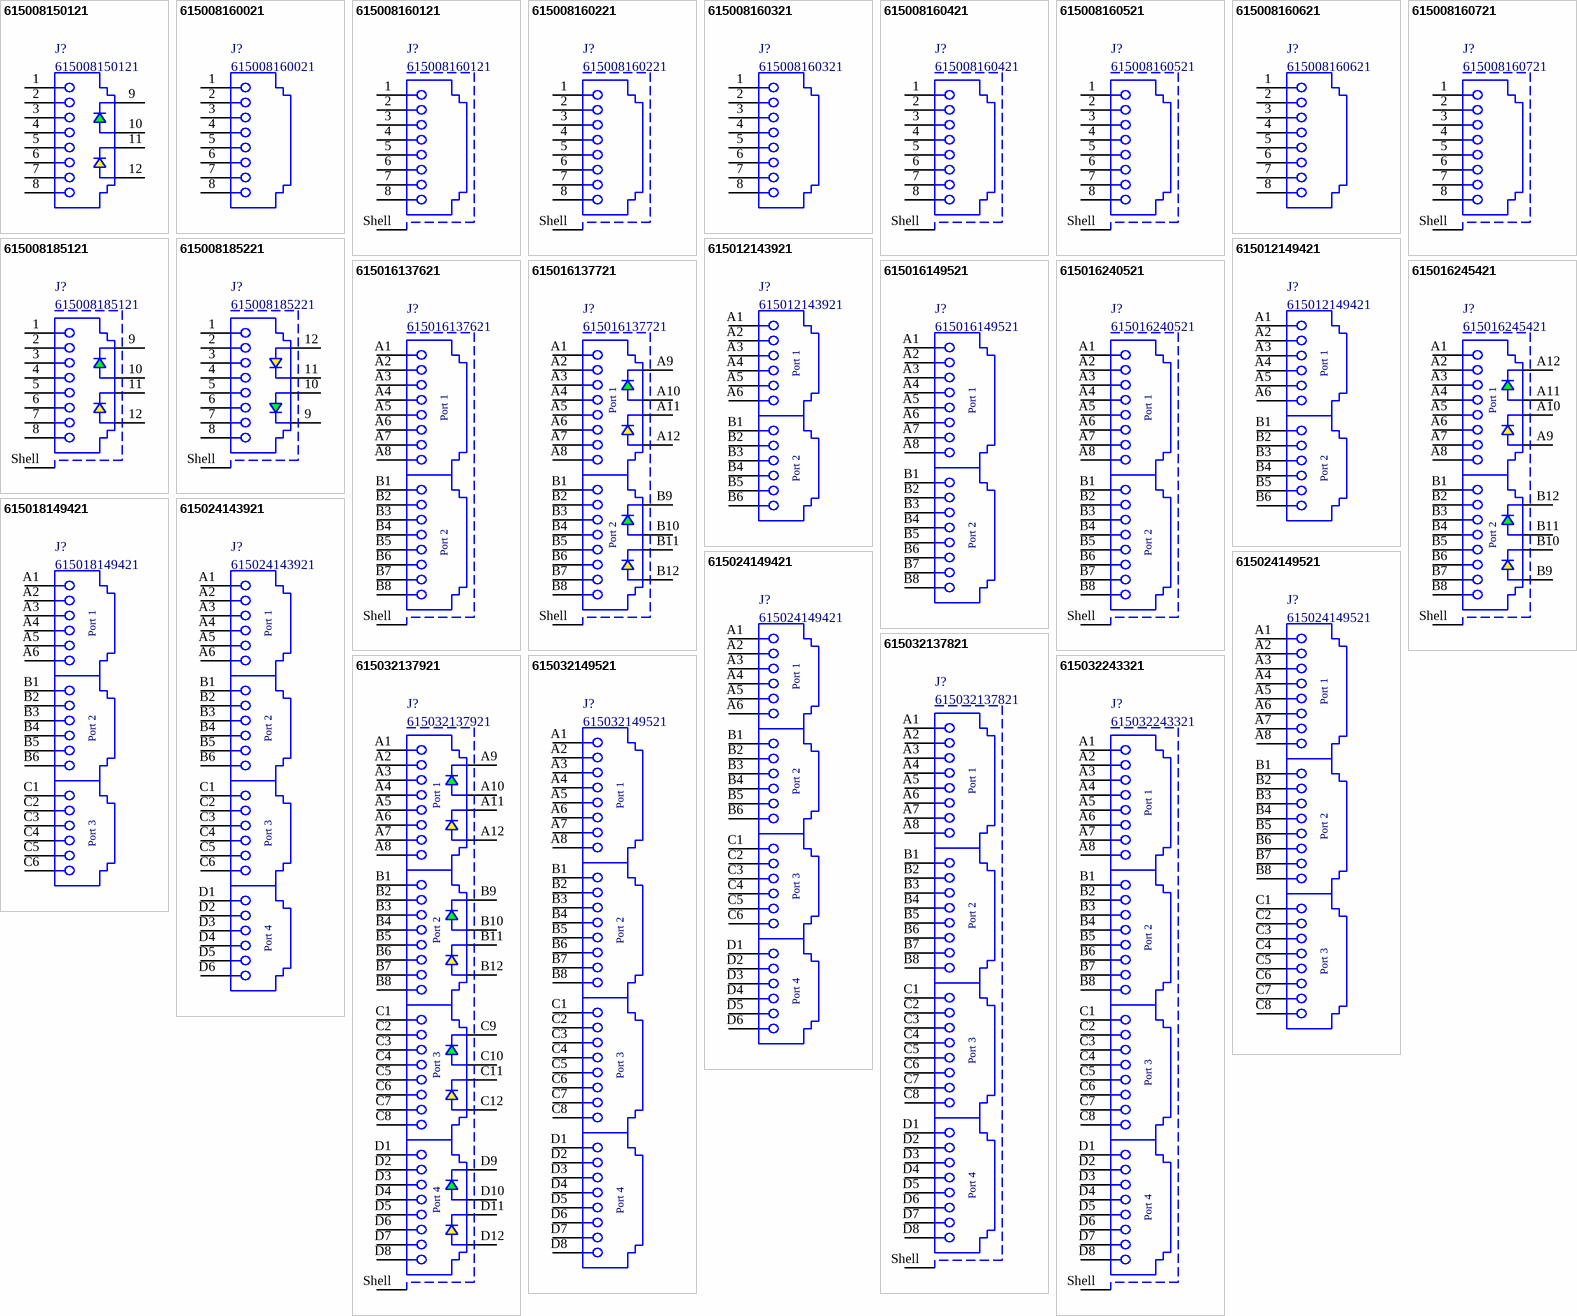
[diagram p1: symbols 615008150121 to 615032243321]

## 615008150121
designator J?
WR-MJ Modular Jack THT Horizontal Mid-Mount Plastic Tab Up 8P8C with LED Y/G; Manufacturer: Wurth Elektronik; Insulation Resistance: 1000MΩ; Contact Resistance: 20mΩ; Number of Ports: 1; Rated Current: 1.5A; Shielding: No; Working Voltage: 125V (AC); Withstanding Voltage: 1000V (AC); Manufacturer Part Number: 615008150121; Category: Input/Output Connector; Match Code: WR-MJ; ComponentLink1Description: Website Link; ComponentLink1URL: https://www.we-online.com/redexpert/article/615008150121?ad; ComponentLink2Description: Datasheet Link; ComponentLink2URL: https://www.we-online.com/redexpert/spec/615008150121?ad; Mount: Through Hole; Min Operating Temperature: -40°C; Max Operating Temperature: 85°C; Packaging: Tray; LED: Y/G; Number of Pins: 8P8C; Orientation: Horizontal
footprint 615008150121
pins: 1, 2, 3, 4, 5, 6, 7, 8, 9, 10, 11, 12

## 615008160021
designator J?
WR-MJ Modular Jack THT Horizontal Plastic 8P8C Tab Up; Manufacturer: Wurth Elektronik; Insulation Resistance: 1000MΩ; Contact Resistance: 20mΩ; LED: No; Number of Ports: 1; Rated Current: 1.5A; Working Voltage: 150V (AC); Withstanding Voltage: 1000V (AC); Manufacturer Part Number: 615008160021; Category: Input/Output Connector; Match Code: WR-MJ; ComponentLink1Description: Website Link; ComponentLink1URL: https://www.we-online.com/redexpert/article/615008160021?ad; ComponentLink2Description: Datasheet Link; ComponentLink2URL: https://www.we-online.com/redexpert/spec/615008160021?ad; Mount: Through Hole; Min Operating Temperature: -40°C; Max Operating Temperature: 85°C; Packaging: Tray; Number of Pins: 8P8C; Orientation: Horizontal; Shielding: No
footprint 615008160021
pins: 1, 2, 3, 4, 5, 6, 7, 8

## 615008160121
designator J?
WR-MJ Modular Jack THT Horizontal Shielded 8P8C Tab Up; Manufacturer: Wurth Elektronik; Insulation Resistance: 1000MΩ; Contact Resistance: 35mΩ; LED: No; Number of Ports: 1; Rated Current: 1.5A; Shielding: Yes; Working Voltage: 125V (AC); Withstanding Voltage: 1000V (AC); Manufacturer Part Number: 615008160121; Category: Input/Output Connector; Match Code: WR-MJ; ComponentLink1Description: Website Link; ComponentLink1URL: https://www.we-online.com/redexpert/article/615008160121?ad; ComponentLink2Description: Datasheet Link; ComponentLink2URL: https://www.we-online.com/redexpert/spec/615008160121?ad; Mount: Through Hole; Min Operating Temperature: -40°C; Max Operating Temperature: 85°C; Packaging: Tray; Number of Pins: 8P8C; Orientation: Horizontal
footprint 615008160121
pins: 1, 2, 3, 4, 5, 6, 7, 8, Shell

## 615008160221
designator J?
WR-MJ Modular Jack THT Horizontal Shielded EMI 8P8C Tab Up; Manufacturer: Wurth Elektronik; Insulation Resistance: 1000MΩ; Contact Resistance: 20mΩ; LED: No; Number of Ports: 1; Rated Current: 1.5A; Shielding: Yes; Working Voltage: 150V (AC); Withstanding Voltage: 1000V (AC); Manufacturer Part Number: 615008160221; Category: Input/Output Connector; Match Code: WR-MJ; ComponentLink1Description: Website Link; ComponentLink1URL: https://www.we-online.com/redexpert/article/615008160221?ad; ComponentLink2Description: Datasheet Link; ComponentLink2URL: https://www.we-online.com/redexpert/spec/615008160221?ad; Mount: Through Hole; Min Operating Temperature: -40°C; Max Operating Temperature: 85°C; Packaging: Tray; Number of Pins: 8P8C; Orientation: Horizontal
footprint 615008160221
pins: 1, 2, 3, 4, 5, 6, 7, 8, Shell

## 615008160321
designator J?
WR-MJ Modular Jack THT Vertical Plastic 8P8C; Manufacturer: Wurth Elektronik; Insulation Resistance: 1000MΩ; Contact Resistance: 35mΩ; LED: No; Number of Ports: 1; Rated Current: 1.5A; Working Voltage: 125V (AC); Withstanding Voltage: 1000V (AC); Manufacturer Part Number: 615008160321; Category: Input/Output Connector; Match Code: WR-MJ; ComponentLink1Description: Website Link; ComponentLink1URL: https://www.we-online.com/redexpert/article/615008160321?ad; ComponentLink2Description: Datasheet Link; ComponentLink2URL: https://www.we-online.com/redexpert/spec/615008160321?ad; Mount: Through Hole; Min Operating Temperature: -40°C; Max Operating Temperature: 85°C; Packaging: Tray; Number of Pins: 8P8C; Orientation: Vertical; Shielding: No
footprint 615008160321
pins: 1, 2, 3, 4, 5, 6, 7, 8

## 615008160421
designator J?
WR-MJ Modular Jack THT Vertical Shielded 8P8C; Manufacturer: Wurth Elektronik; Insulation Resistance: 1000MΩ; Contact Resistance: 35mΩ; LED: No; Number of Ports: 1; Rated Current: 1.5A; Shielding: Yes; Working Voltage: 125V (AC); Withstanding Voltage: 1000V (AC); Manufacturer Part Number: 615008160421; Category: Input/Output Connector; Match Code: WR-MJ; ComponentLink1Description: Website Link; ComponentLink1URL: https://www.we-online.com/redexpert/article/615008160421?ad; ComponentLink2Description: Datasheet Link; ComponentLink2URL: https://www.we-online.com/redexpert/spec/615008160421?ad; Mount: Through Hole; Min Operating Temperature: -40°C; Max Operating Temperature: 85°C; Packaging: Tray; Number of Pins: 8P8C; Orientation: Vertical
footprint 615008160421
pins: 1, 2, 3, 4, 5, 6, 7, 8, Shell

## 615008160521
designator J?
WR-MJ Modular Jack THT Vertical Shielded EMI 8P8C; Manufacturer: Wurth Elektronik; Insulation Resistance: 1000MΩ; Contact Resistance: 35mΩ; LED: No; Number of Ports: 1; Rated Current: 1.5A; Shielding: Yes; Working Voltage: 125V (AC); Withstanding Voltage: 1000V (AC); Manufacturer Part Number: 615008160521; Category: Input/Output Connector; Match Code: WR-MJ; ComponentLink1Description: Website Link; ComponentLink1URL: https://www.we-online.com/redexpert/article/615008160521?ad; ComponentLink2Description: Datasheet Link; ComponentLink2URL: https://www.we-online.com/redexpert/spec/615008160521?ad; Mount: Through Hole; Min Operating Temperature: -40°C; Max Operating Temperature: 85°C; Packaging: Tray; Number of Pins: 8P8C; Orientation: Vertical
footprint 615008160521
pins: 1, 2, 3, 4, 5, 6, 7, 8, Shell

## 615008160621
designator J?
WR-MJ Modular Jack THT 47.5° 8P8C; Manufacturer: Wurth Elektronik; Insulation Resistance: 1000MΩ; Contact Resistance: 35mΩ; LED: No; Number of Ports: 1; Rated Current: 1.5A; Working Voltage: 125V (AC); Withstanding Voltage: 1000V (AC); Manufacturer Part Number: 615008160621; Category: Input/Output Connector; Match Code: WR-MJ; ComponentLink1Description: Website Link; ComponentLink1URL: https://www.we-online.com/redexpert/article/615008160621?ad; ComponentLink2Description: Datasheet Link; ComponentLink2URL: https://www.we-online.com/redexpert/spec/615008160621?ad; Mount: Through Hole; Min Operating Temperature: -40°C; Max Operating Temperature: 85°C; Packaging: Tray; Number of Pins: 8P8C; Orientation: 47.5°; Shielding: No
footprint 615008160621
pins: 1, 2, 3, 4, 5, 6, 7, 8

## 615008160721
designator J?
WR-MJ Modular Jack THT 47.5° Shielded 8P8C; Manufacturer: Wurth Elektronik; Insulation Resistance: 1000MΩ; Contact Resistance: 35mΩ; LED: No; Number of Ports: 1; Rated Current: 1.5A; Shielding: Yes; Working Voltage: 125V (AC); Withstanding Voltage: 1000V (AC); Manufacturer Part Number: 615008160721; Category: Input/Output Connector; Match Code: WR-MJ; ComponentLink1Description: Website Link; ComponentLink1URL: https://www.we-online.com/redexpert/article/615008160721?ad; ComponentLink2Description: Datasheet Link; ComponentLink2URL: https://www.we-online.com/redexpert/spec/615008160721?ad; Mount: Through Hole; Min Operating Temperature: -40°C; Max Operating Temperature: 85°C; Packaging: Tray; Number of Pins: 8P8C; Orientation: 47.5°
footprint 615008160721
pins: 1, 2, 3, 4, 5, 6, 7, 8, Shell

## 615008185121
designator J?
WR-MJ Modular Jack THT Horizontal Shielded Low Profile with LED 8P8C Tab Up; Manufacturer: Wurth Elektronik; Insulation Resistance: 1000MΩ; Contact Resistance: 30mΩ; LED: Y/G; Number of Ports: 1; Rated Current: 1.5A; Shielding: Yes; Working Voltage: 125V (AC); Withstanding Voltage: 1000V (AC); Manufacturer Part Number: 615008185121; Category: Input/Output Connector; Match Code: WR-MJ; ComponentLink1Description: Website Link; ComponentLink1URL: https://www.we-online.com/redexpert/article/615008185121?ad; ComponentLink2Description: Datasheet Link; ComponentLink2URL: https://www.we-online.com/redexpert/spec/615008185121?ad; Mount: Through Hole; Min Operating Temperature: -40°C; Max Operating Temperature: 85°C; Packaging: Tape and Reel; Number of Pins: 8P8C; Orientation: Horizontal
footprint 615008185121
pins: 1, 2, 3, 4, 5, 6, 7, 8, 9, 10, 11, 12, Shell

## 615008185221
designator J?
WR-MJ Modular Jack THT Horizontal Shielded with LED and EMI Panel Finger 8P8C Tab Down; Manufacturer: Wurth Elektronik; Insulation Resistance: 1000MΩ; Contact Resistance: 30mΩ; LED: Y/G; Number of Ports: 1; Rated Current: 1.5A; Shielding: Yes; Working Voltage: 125V (AC); Withstanding Voltage: 1000V (AC); Manufacturer Part Number: 615008185221; Category: Input/Output Connector; Match Code: WR-MJ; ComponentLink1Description: Website Link; ComponentLink1URL: https://www.we-online.com/redexpert/article/615008185221?ad; ComponentLink2Description: Datasheet Link; ComponentLink2URL: https://www.we-online.com/redexpert/spec/615008185221?ad; Mount: Through Hole; Min Operating Temperature: -40°C; Max Operating Temperature: 85°C; Packaging: Tray; Number of Pins: 8P8C; Orientation: Horizontal
footprint 615008185221
pins: 1, 2, 3, 4, 5, 6, 7, 8, 9, 10, 11, 12, Shell

## 615012143921
designator J?
WR-MJ Modular Jack THT Horizontal Plastic Dual Port 6P6C Tab Up; Manufacturer: Wurth Elektronik; Insulation Resistance: 500MΩ; Contact Resistance: 20mΩ; LED: No; Number of Ports: 2; Rated Current: 1.5A; Working Voltage: 120V (AC); Withstanding Voltage: 1000V (AC); Manufacturer Part Number: 615012143921; Category: Input/Output Connector; Match Code: WR-MJ; ComponentLink1Description: Website Link; ComponentLink1URL: https://www.we-online.com/redexpert/article/615012143921?ad; ComponentLink2Description: Datasheet Link; ComponentLink2URL: https://www.we-online.com/redexpert/spec/615012143921?ad; Mount: Through Hole; Min Operating Temperature: -40°C; Max Operating Temperature: 85°C; Packaging: Tray; Number of Pins: 6P6C; Orientation: Horizontal; Shielding: No
footprint 615012143921
pins: A1, A2, A3, A4, A5, A6, B1, B2, B3, B4, B5, B6
text: Port 1; Port 2

## 615012149421
designator J?
WR-MJ Modular Jack THT Horizontal Plastic 6P6C Assembly Tab Up; Manufacturer: Wurth Elektronik; Insulation Resistance: 500MΩ; Contact Resistance: 20mΩ; LED: No; Number of Ports: 2; Rated Current: 1.5A; Working Voltage: 120V (AC); Withstanding Voltage: 1000V (AC); Manufacturer Part Number: 615012149421; Category: Input/Output Connector; Match Code: WR-MJ; ComponentLink1Description: Website Link; ComponentLink1URL: https://www.we-online.com/redexpert/article/615012149421?ad; ComponentLink2Description: Datasheet Link; ComponentLink2URL: https://www.we-online.com/redexpert/spec/615012149421?ad; Mount: Through Hole; Min Operating Temperature: -40°C; Max Operating Temperature: 85°C; Packaging: Tray; Number of Pins: 6P6C; Orientation: Horizontal; Shielding: No
footprint 615012149421
pins: A1, A2, A3, A4, A5, A6, B1, B2, B3, B4, B5, B6
text: Port 1; Port 2

## 615016137621
designator J?
WR-MJ Modular Jack THT Horizontal Shielded Dual Port 8P8C Tab Down; Manufacturer: Wurth Elektronik; Insulation Resistance: 500MΩ; Contact Resistance: 20mΩ; LED: No; Number of Ports: 2; Rated Current: 1.5A; Shielding: Yes; Working Voltage: 120V (AC); Withstanding Voltage: 1000V (AC); Manufacturer Part Number: 615016137621; Category: Input/Output Connector; Match Code: WR-MJ; ComponentLink1Description: Website Link; ComponentLink1URL: https://www.we-online.com/redexpert/article/615016137621?ad; ComponentLink2Description: Datasheet Link; ComponentLink2URL: https://www.we-online.com/redexpert/spec/615016137621?ad; Mount: Through Hole; Min Operating Temperature: -40°C; Max Operating Temperature: 85°C; Packaging: Tray; Number of Pins: 8P8C; Orientation: Horizontal
footprint 615016137621
pins: A1, A2, A3, A4, A5, A6, A7, A8, B1, B2, B3, B4, B5, B6, B7, B8, Shell
text: Port 1; Port 2

## 615016137721
designator J?
WR-MJ Modular Jack THT Horizontal Shielded Dual Port with EMI Panel Finger 8P8C Tab Up; Manufacturer: Wurth Elektronik; Insulation Resistance: 500MΩ; Contact Resistance: 20mΩ; LED: Y/G; Number of Ports: 2; Rated Current: 1.5A; Shielding: Yes; Working Voltage: 120V (AC); Withstanding Voltage: 1000V (AC); Manufacturer Part Number: 615016137721; Category: Input/Output Connector; Match Code: WR-MJ; ComponentLink1Description: Website Link; ComponentLink1URL: https://www.we-online.com/redexpert/article/615016137721?ad; ComponentLink2Description: Datasheet Link; ComponentLink2URL: https://www.we-online.com/redexpert/spec/615016137721?ad; Mount: Through Hole; Min Operating Temperature: -40°C; Max Operating Temperature: 85°C; Packaging: Tray; Number of Pins: 8P8C; Orientation: Horizontal
footprint 615016137721
pins: A1, A2, A3, A4, A5, A6, A7, A8, A9, A10, A11, A12, B1, B2, B3, B4, B5, B6, B7, B8, B9, B10, B11, B12, Shell
text: Port 1; Port 2

## 615016149521
designator J?
WR-MJ Modular Jack THT Horizontal Plastic 8P8C Assembly Tab Up; Manufacturer: Wurth Elektronik; Insulation Resistance: 500MΩ; Contact Resistance: 20mΩ; LED: No; Number of Ports: 2; Rated Current: 1.5A; Working Voltage: 120V (AC); Withstanding Voltage: 1000V (AC); Manufacturer Part Number: 615016149521; Category: Input/Output Connector; Match Code: WR-MJ; ComponentLink1Description: Website Link; ComponentLink1URL: https://www.we-online.com/redexpert/article/615016149521?ad; ComponentLink2Description: Datasheet Link; ComponentLink2URL: https://www.we-online.com/redexpert/spec/615016149521?ad; Mount: Through Hole; Min Operating Temperature: -40°C; Max Operating Temperature: 85°C; Packaging: Tray; Number of Pins: 8P8C; Orientation: Horizontal; Shielding: No
footprint 615016149521
pins: A1, A2, A3, A4, A5, A6, A7, A8, B1, B2, B3, B4, B5, B6, B7, B8
text: Port 1; Port 2

## 615016240521
designator J?
WR-MJ Modular Jack THT Horizontal Shielded Dual Stacked with EMI Panel Finger 8P8C Tab Up&Down; Manufacturer: Wurth Elektronik; Insulation Resistance: 500MΩ; Contact Resistance: 20mΩ; LED: No; Number of Ports: 2; Rated Current: 1.5A; Shielding: Yes; Working Voltage: 120V (AC); Withstanding Voltage: 1000V (AC); Manufacturer Part Number: 615016240521; Category: Input/Output Connector; Match Code: WR-MJ; ComponentLink1Description: Website Link; ComponentLink1URL: https://www.we-online.com/redexpert/article/615016240521?ad; ComponentLink2Description: Datasheet Link; ComponentLink2URL: https://www.we-online.com/redexpert/spec/615016240521?ad; Mount: Through Hole; Min Operating Temperature: -40°C; Max Operating Temperature: 85°C; Packaging: Tray; Number of Pins: 8P8C; Orientation: Horizontal
footprint 615016240521
pins: A1, A2, A3, A4, A5, A6, A7, A8, B1, B2, B3, B4, B5, B6, B7, B8, Shell
text: Port 1; Port 2

## 615016245421
designator J?
WR-MJ Modular Jack THT Horizontal Shielded Dual Stacked with LED and EMI Panel Finger 8P8C Tab Up&Down; Manufacturer: Wurth Elektronik; Insulation Resistance: 500MΩ; Contact Resistance: 20mΩ; LED: Y/G; Number of Ports: 2; Rated Current: 1.5A; Shielding: Yes; Working Voltage: 120V (AC); Withstanding Voltage: 1000V (AC); Manufacturer Part Number: 615016245421; Category: Input/Output Connector; Match Code: WR-MJ; ComponentLink1Description: Website Link; ComponentLink1URL: https://www.we-online.com/redexpert/article/615016245421?ad; ComponentLink2Description: Datasheet Link; ComponentLink2URL: https://www.we-online.com/redexpert/spec/615016245421?ad; Mount: Through Hole; Min Operating Temperature: -40°C; Max Operating Temperature: 85°C; Packaging: Tray; Number of Pins: 8P8C; Orientation: Horizontal
footprint 615016245421
pins: A1, A2, A3, A4, A5, A6, A7, A8, A9, A10, A11, A12, B1, B2, B3, B4, B5, B6, B7, B8, B9, B10, B11, B12, Shell
text: Port 1; Port 2